# EAGLE library part MA06-1 (library dec-con)
Pin Header (.125" spacing)
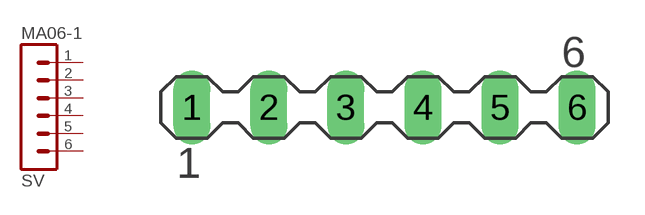
[diagram p17: symbol with the pads of MA06-1; footprint MA06-1]

Designator prefix SV

## MA06-1  [MA06-1]
1  1  pas
2  2  pas
3  3  pas
4  4  pas
5  5  pas
6  6  pas

## Footprint MA06-1 (pad centres in mm)
PIN HEADER (.125")
drill 1.016 long: 1 -6.35,0; 2 -3.175,0; 3 0,0; 4 3.175,0; 5 6.35,0; 6 9.525,0